# Altium footprint library MechanicalComponents.PcbLib: 27 footprints (part 1 of 2)
Each footprint in its own frame and in the unit in brackets; x right, y up, seen from the top. Pads: shape width x height; smd on the part's side, far side on the other; paste and mask are expansions set on the pad; w line width, h text height; cw(c..) or ccw(c..) is an arc to the next point about the centre after c.
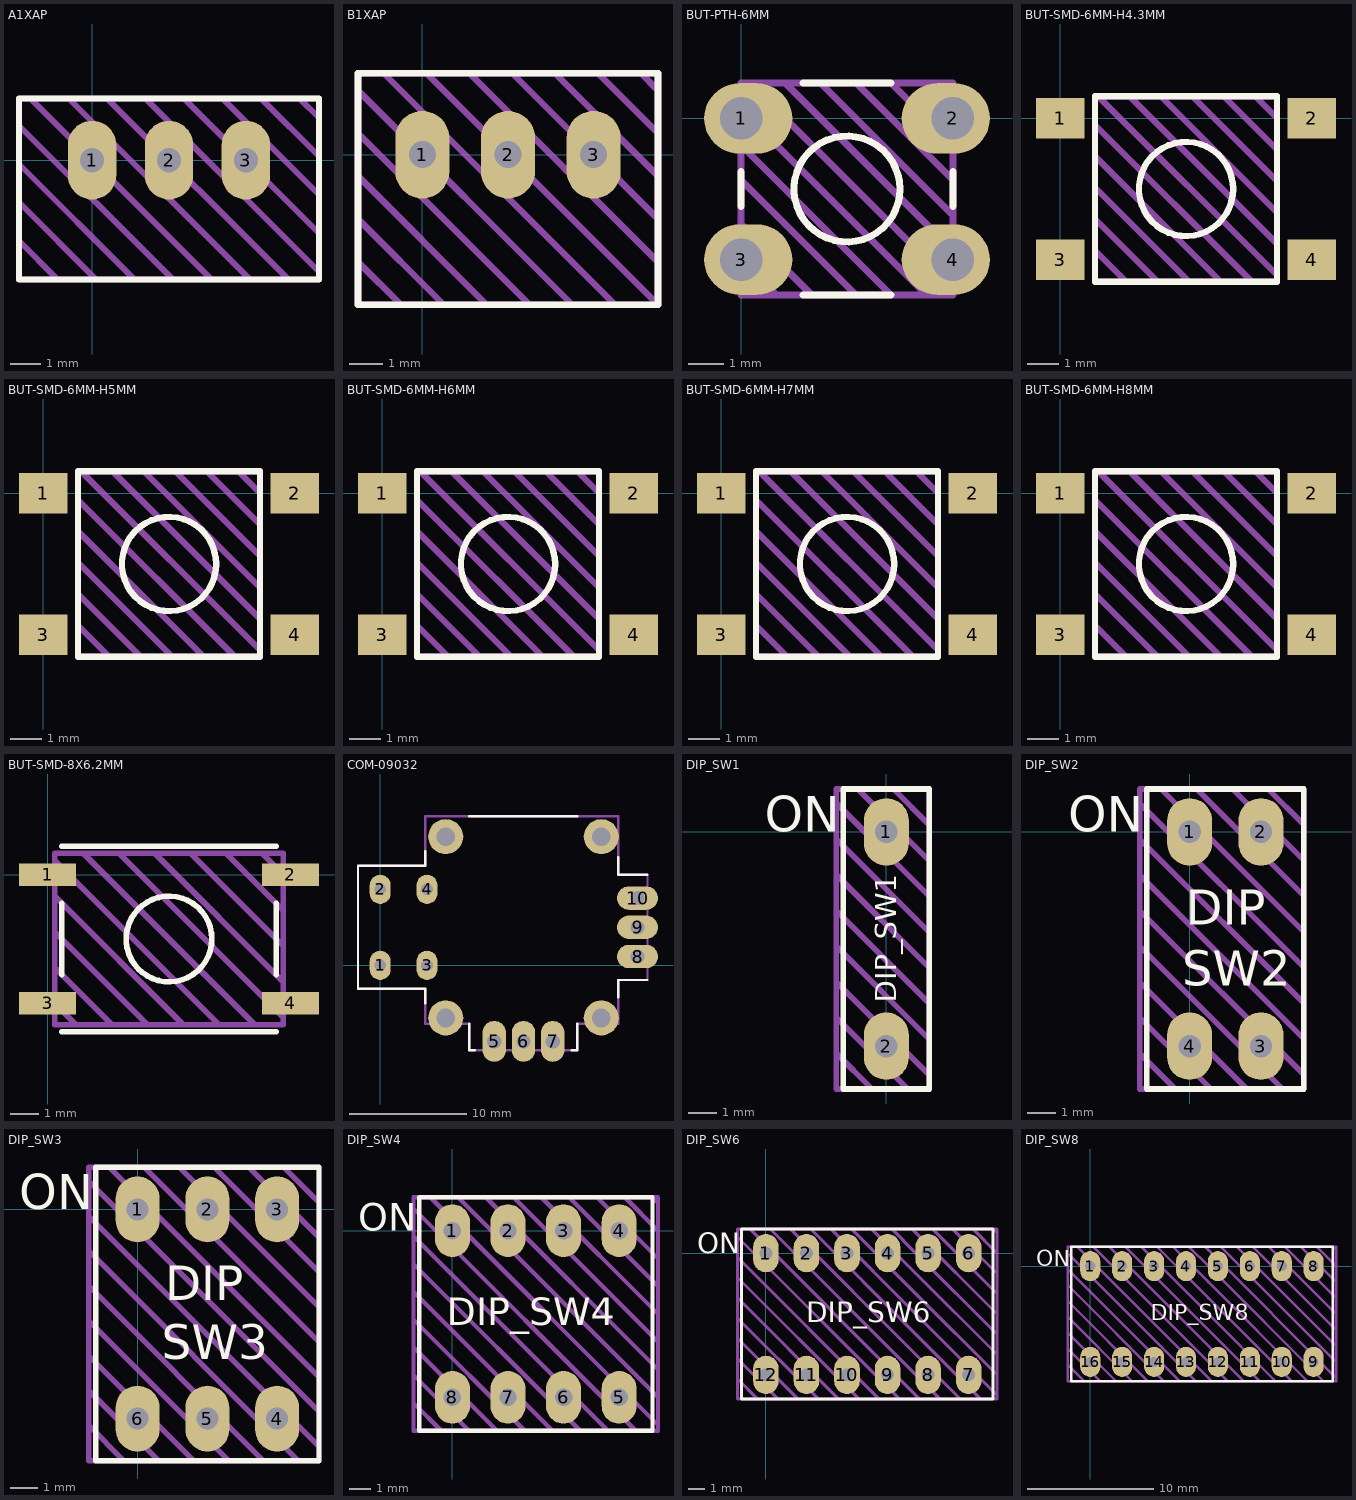
[diagram p0: the footprints below, top view; thin cyan lines are the x and y axes]

## A1XAP [mm] "NKK Switches A-Series Toggle Switch"
pads (3):
  oval 1.6x2.6 hole 0.8: 1(0,0) 2(2.54,0) 3(5.08,0)
Top Overlay:
  lines w0.2: -2.413,-3.937 -2.413,2.032 7.493,2.032 7.493,-3.937 -2.413,-3.937
Top Draw:
  lines w0.2: -2.413,-2.667 -1.143,-3.937 ; -2.413,-1.397 0.127,-3.937 ; -2.413,-0.127 1.397,-3.937 ; -2.413,1.143 2.667,-3.937 ; -2.032,2.032 3.937,-3.937 ; -0.762,2.032 5.207,-3.937 ; 0.508,2.032 6.477,-3.937 ; 1.778,2.032 7.493,-3.683 ; 3.048,2.032 7.493,-2.413 ; 4.318,2.032 7.493,-1.143 ; 5.588,2.032 7.493,0.127 ; 6.858,2.032 7.493,1.397 ; -2.413,-3.937 -2.413,2.032 7.493,2.032 7.493,-3.937 -2.413,-3.937
Top Info:
  text "'.Comment'" at -1.749,-5.383 h1
3D body "A13AP.stp": height 21.83, standoff -3.06, extent -2.362,-3.861 7.442,1.981

## B1XAP [mm] "NKK Switches B-Series Toggle Switch"
pads (3):
  oval 1.6x2.6 hole 0.8: 1(0,0) 2(2.54,0) 3(5.08,0)
Top Overlay:
  lines w0.2: -1.905,-4.445 -1.905,2.413 6.985,2.413 6.985,-4.445 -1.905,-4.445
Top Draw:
  lines w0.2: -1.905,-3.175 -0.635,-4.445 ; -1.905,-1.905 0.635,-4.445 ; -1.905,-0.635 1.905,-4.445 ; -1.905,0.635 3.175,-4.445 ; -1.905,1.905 4.445,-4.445 ; -1.143,2.413 5.715,-4.445 ; 0.127,2.413 6.985,-4.445 ; 1.397,2.413 6.985,-3.175 ; 2.667,2.413 6.985,-1.905 ; 3.937,2.413 6.985,-0.635 ; 5.207,2.413 6.985,0.635 ; 6.477,2.413 6.985,1.905 ; 6.985,-4.445 -1.905,-4.445 -1.905,2.413 6.985,2.413 6.985,-4.445
Top Info:
  text "'.Comment'" at -1.709,-5.917 h1
3D body "B13AP.stp": height 22.89, standoff -3.1, extent -1.854,-4.42 6.934,2.388

## BUT-PTH-6MM [mm]
pads (4):
  oval 2.5x2 hole 1.2 copper offset 0.2,0: 1(0,0) 3(0,-4)
  oval 2.5x2 hole 1.2 copper offset -0.2,0: 2(6,0) 4(6,-4)
Top Overlay:
  circle w0.2: c3,-2 r1.5
  lines w0.2: 0,-2.5 0,-1.5 ; 1.75,-5 4.25,-5 ; 1.75,1 4.25,1 ; 6,-2.5 6,-1.5
Top Draw:
  lines w0.2: 0,-4 1,-5 ; 0,-3 2,-5 ; 0,-1.75 3.25,-5 ; 0,-0.75 4.25,-5 ; 0,0.25 5.25,-5 ; 0.25,1 6,-4.75 ; 1.25,1 6,-3.75 ; 2.25,1 6,-2.75 ; 3.25,1 6,-1.75 ; 4.25,1 6,-0.75 ; 5.25,1 6,0.25 ; 0,-5 0,1 6,1 6,-5 0,-5
Top Info:
  text "'.Comment'" at -1.249,-6.483 h1
3D body: height -1.38, standoff -3.87, extent 4.969,-0.4 6.2,0.4
3D body: height -1.38, standoff -3.87, extent -0.2,-0.4 1.031,0.4
3D body: height -1.38, standoff -3.87, extent -0.2,-4.4 1.031,-3.6
3D body: height -1.38, standoff -3.87, extent 4.969,-4.4 6.2,-3.6
3D body: height 2, standoff -0.03, extent -0.197,-0.4 0.544,0.4
3D body: height 4, standoff 3.8, extent 4.5,-0.5 5.5,0.5
3D body: height 4, standoff 3.8, extent 4.5,-4.5 5.5,-3.5
3D body: height 4, standoff 3.8, extent 0.498,-4.5 1.498,-3.5
3D body: height 4, standoff 3.8, extent 0.498,-0.5 1.498,0.5
3D body: height 3.5, standoff 0.3, extent 0,-5 6,1
3D body: height 3.8, standoff 3.5, extent 0,-5 6,1
3D body: height 2, standoff -0.03, extent -0.197,-4.4 0.544,-3.6
3D body: height 2, standoff -0.03, extent 5.456,-4.4 6.197,-3.6
3D body: height 2, standoff -0.03, extent 5.456,-0.4 6.197,0.4
3D body: height 4.6, standoff 3.8, extent 1.494,-3.5 4.494,-0.5

## BUT-SMD-6MM-H4.3MM [mm]
pads (4):
  rect 1.55x1.3 smd: 1(0,0) 2(8,0) 3(0,-4.5) 4(8,-4.5)
Top Overlay:
  circle w0.2: c4,-2.25 r1.5
  lines w0.2: 1.1,-5.2 1.1,0.7 6.9,0.7 6.9,-5.2 1.1,-5.2
Top Draw:
  lines w0.2: 1.1,-4.2 2.1,-5.2 ; 1.1,-3.2 3.1,-5.2 ; 1.1,-2.2 4.1,-5.2 ; 1.1,-1.2 5.1,-5.2 ; 1.1,-0.2 6.1,-5.2 ; 1.2,0.7 6.9,-5 ; 2.2,0.7 6.9,-4 ; 3.2,0.7 6.9,-3 ; 4.2,0.7 6.9,-2 ; 5.2,0.7 6.9,-1 ; 6.2,0.7 6.9,0 ; 1.1,-5.2 1.1,0.7 6.9,0.7 6.9,-5.2 1.1,-5.2
Top Info:
  text "'.Comment'" at -0.249,-6.683 h1
3D body "TS6-SMT_H-4.3.step": height 4.3, standoff 0, extent 0,-5.25 8,0.75

## BUT-SMD-6MM-H5MM [mm]
pads (4):
  rect 1.55x1.3 smd: 1(0,0) 2(8,0) 3(0,-4.5) 4(8,-4.5)
Top Overlay:
  circle w0.2: c4,-2.25 r1.5
  lines w0.2: 1.1,-5.2 1.1,0.7 6.9,0.7 6.9,-5.2 1.1,-5.2
Top Draw:
  lines w0.2: 1.1,-4.2 2.1,-5.2 ; 1.1,-3.2 3.1,-5.2 ; 1.1,-2.2 4.1,-5.2 ; 1.1,-1.2 5.1,-5.2 ; 1.1,-0.2 6.1,-5.2 ; 1.2,0.7 6.9,-5 ; 2.2,0.7 6.9,-4 ; 3.2,0.7 6.9,-3 ; 4.2,0.7 6.9,-2 ; 5.2,0.7 6.9,-1 ; 6.2,0.7 6.9,0 ; 1.1,-5.2 1.1,0.7 6.9,0.7 6.9,-5.2 1.1,-5.2
Top Info:
  text "'.Comment'" at -0.249,-6.683 h1
3D body "TS6-SMT_H-5.0.step": height 5, standoff 0, extent 0,-5.25 8,0.75

## BUT-SMD-6MM-H6MM [mm]
pads (4):
  rect 1.55x1.3 smd: 1(0,0) 2(8,0) 3(0,-4.5) 4(8,-4.5)
Top Overlay:
  circle w0.2: c4,-2.25 r1.5
  lines w0.2: 1.1,-5.2 1.1,0.7 6.9,0.7 6.9,-5.2 1.1,-5.2
Top Draw:
  lines w0.2: 1.1,-4.2 2.1,-5.2 ; 1.1,-3.2 3.1,-5.2 ; 1.1,-2.2 4.1,-5.2 ; 1.1,-1.2 5.1,-5.2 ; 1.1,-0.2 6.1,-5.2 ; 1.2,0.7 6.9,-5 ; 2.2,0.7 6.9,-4 ; 3.2,0.7 6.9,-3 ; 4.2,0.7 6.9,-2 ; 5.2,0.7 6.9,-1 ; 6.2,0.7 6.9,0 ; 1.1,-5.2 1.1,0.7 6.9,0.7 6.9,-5.2 1.1,-5.2
Top Info:
  text "'.Comment'" at -0.249,-6.683 h1
3D body "TS6-SMT_H-6.0.step": height 6, standoff 0, extent 0,-5.25 8,0.75

## BUT-SMD-6MM-H7MM [mm]
pads (4):
  rect 1.55x1.3 smd: 1(0,0) 2(8,0) 3(0,-4.5) 4(8,-4.5)
Top Overlay:
  circle w0.2: c4,-2.25 r1.5
  lines w0.2: 1.1,-5.2 6.9,-5.2 6.9,0.7 1.1,0.7 1.1,-5.2
Top Draw:
  lines w0.2: 1.1,-4.2 2.1,-5.2 ; 1.1,-3.2 3.1,-5.2 ; 1.1,-2.2 4.1,-5.2 ; 1.1,-1.2 5.1,-5.2 ; 1.1,-0.2 6.1,-5.2 ; 1.2,0.7 6.9,-5 ; 2.2,0.7 6.9,-4 ; 3.2,0.7 6.9,-3 ; 4.2,0.7 6.9,-2 ; 5.2,0.7 6.9,-1 ; 6.2,0.7 6.9,0 ; 1.1,-5.2 6.9,-5.2 6.9,0.7 1.1,0.7 1.1,-5.2
Top Info:
  text "'.Comment'" at -0.249,-6.683 h1
3D body "TS6-SMT_H-7.0.step": height 7, standoff 0, extent 0,-5.25 8,0.75

## BUT-SMD-6MM-H8MM [mm]
pads (4):
  rect 1.55x1.3 smd: 1(0,0) 2(8,0) 3(0,-4.5) 4(8,-4.5)
Top Overlay:
  circle w0.2: c4,-2.25 r1.5
  lines w0.2: 1.1,-5.2 1.1,0.7 6.9,0.7 6.9,-5.2 1.1,-5.2
Top Draw:
  lines w0.2: 1.1,-4.2 2.1,-5.2 ; 1.1,-3.2 3.1,-5.2 ; 1.1,-2.2 4.1,-5.2 ; 1.1,-1.2 5.1,-5.2 ; 1.1,-0.2 6.1,-5.2 ; 1.2,0.7 6.9,-5 ; 2.2,0.7 6.9,-4 ; 3.2,0.7 6.9,-3 ; 4.2,0.7 6.9,-2 ; 5.2,0.7 6.9,-1 ; 6.2,0.7 6.9,0 ; 1.1,-5.2 1.1,0.7 6.9,0.7 6.9,-5.2 1.1,-5.2
Top Info:
  text "'.Comment'" at -0.249,-6.683 h1
3D body "TS6-SMT_H-8.0.step": height 8, standoff 0, extent 0,-5.25 8,0.75

## BUT-SMD-8X6.2MM [mm] "FSM1LP"
pads (4):
  rect 2x0.8 smd: 1(0,0) 2(8.5,0) 3(0,-4.5) 4(8.5,-4.5)
Top Overlay:
  circle w0.2: c4.25,-2.25 r1.5
  lines w0.2: 0.5,-5.5 8,-5.5 ; 0.5,-3.5 0.5,-1 ; 0.5,1 8,1 ; 8,-3.5 8,-1
Top Draw:
  lines w0.2: 0.25,-4.5 1,-5.25 ; 0.25,-3.25 2.25,-5.25 ; 0.25,-2 3.5,-5.25 ; 0.25,-0.75 4.75,-5.25 ; 0.25,0.5 6,-5.25 ; 1.25,0.75 7.25,-5.25 ; 2.5,0.75 8.25,-5 ; 3.75,0.75 8.25,-3.75 8.25,-4.5 ; 5,0.75 8.25,-2.5 ; 6.25,0.75 8.25,-1.25 8.25,-2.5 ; 7.5,0.75 8.25,0 8.25,-0.5 ; 8.25,-3 8.25,-2.5 ; 0.25,-5.25 0.25,0.75 8.25,0.75 8.25,-5.25 0.25,-5.25
Top Info:
  text "'.Comment'" at 0.001,-7.083 h1
3D body: height 0.3, standoff 0, extent -0.5,-0.3 0.7,0.3
3D body: height 0.3, standoff 0, extent -0.5,-4.8 0.7,-4.2
3D body: height 0.3, standoff 0, extent 7.8,-4.8 9,-4.2
3D body: height 0.3, standoff 0, extent 7.8,-0.3 9,0.3
3D body: height 2.1, standoff 1.9, extent 2.65,-3.85 5.85,-0.65
3D body: height 1, standoff 0, extent 0.65,-5.2 7.85,0.7
3D body: height 2, standoff 0.4, extent 0.55,-5.3 0.65,0.8
3D body: height 2, standoff 0.4, extent 0.55,-5.3 7.95,-5.2
3D body: height 2, standoff 0.4, extent 0.55,0.7 7.95,0.8
3D body: height 2, standoff 0.4, extent 7.85,-5.3 7.95,0.8
3D body: height 2, standoff 0.4, extent 0.55,-5.3 7.95,0.8

## COM-09032 [mm] "PS3/PS4 Analog Joystick"
pads (14):
  oval 1.8x2.5 hole 1: 1(0,0) 2(0,6.5) 3(4,0) 4(4,6.5)
  oval 2x3.5 hole 1.2: 5(9.75,-6.5) 6(12.25,-6.5) 7(14.75,-6.5)
  oval 3.5x2 hole 1.2: 8(22,0.75) 9(22,3.25) 10(22,5.75)
  round 3 hole 1.6: ""(5.6,-4.5) ""(5.6,11) ""(18.9,-4.5) ""(18.9,11)
Top Overlay:
  lines w0.2: 3.85,-3.25 3.85,-2 -1.9,-2 -1.9,8.5 3.85,8.5 3.85,9.75 ; 7.6,-5 7.6,-7.25 8.1,-7.25 ; 7.6,12.75 16.85,12.75 ; 16.35,-7.25 16.85,-7.25 16.85,-5 ; 20.35,-2.75 20.35,-1.25 22.85,-1.25 ; 20.35,9.25 20.35,7.75 22.85,7.75
Top Draw:
  lines w0.2: -1.9,-2 3.85,-2 3.85,-5 7.6,-5 7.6,-7.25 16.85,-7.25 16.85,-5 20.35,-5 20.35,-1.25 22.85,-1.25 22.85,7.75 20.35,7.75 20.35,12.75 7.6,12.75 3.85,12.75 3.85,8.5 -1.9,8.5 -1.9,-2
Top Info:
  text "'.Comment'" at 2.003,-11.166 h2

## DIP_SW1 [mm]
pads (2):
  oval 1.6x2.4 hole 0.8: 1(0,0) 2(0,-7.62)
Top Overlay:
  lines w0.2: -1.524,-9.144 -1.524,1.524 1.524,1.524 1.524,-9.144 -1.524,-9.144
  text "DIP_SW1" at 0.36,-6.073 h0.75
  text "ON" at -4.318,0 h1.27
Top Draw:
  lines w0.2: -1.778,-7.874 -0.508,-9.144 ; -1.778,-6.604 0.762,-9.144 ; -1.778,-5.334 1.524,-8.636 ; -1.778,-4.064 1.524,-7.366 ; -1.778,-2.794 1.524,-6.096 ; -1.778,-1.524 1.524,-4.826 ; -1.778,-0.254 1.524,-3.556 ; -1.778,1.016 1.524,-2.286 ; -1.016,1.524 1.524,-1.016 ; 0.254,1.524 1.524,0.254 ; -1.778,-9.144 1.524,-9.144 1.524,1.524 -1.778,1.524 -1.778,-9.144
Top Info:
  text "'.Comment'" at -5.311,-11.029 h1.25
3D body: height 7.62, standoff 6.32, extent -0.762,-3.302 0.762,-2.032
3D body: height 6.86, standoff 6.32, extent 0.762,-5.588 1.524,-2.032
3D body: height 6.86, standoff 6.32, extent -1.524,-5.588 -0.762,-2.032
3D body: height 0.25, standoff -1.78, extent -0.254,-0.127 0.254,0.127
3D body: height 0.25, standoff -1.78, extent -0.254,-7.747 0.254,-7.493
3D body: height 6.35, standoff 0, extent -1.778,-9.144 1.524,1.524
3D body: height 6.86, standoff 0.25, extent -1.778,-2.032 1.524,1.524
3D body: height 6.86, standoff 0.25, extent -1.778,-9.144 1.524,-5.588
3D body: height 6.43, standoff 6.32, extent -0.762,-5.588 0.762,-2.032

## DIP_SW2 [mm]
pads (4):
  oval 1.6x2.4 hole 0.8: 1(0,0) 2(2.54,0) 3(2.54,-7.62) 4(0,-7.62)
Top Overlay:
  lines w0.2: -1.524,-9.144 4.064,-9.144 4.064,1.524 -1.524,1.524 -1.524,-9.144
  text "ON" at -4.318,0 h1.27
  text "DIP" at -0.131,-3.306 h1.25
  text "SW2" at -0.258,-5.465 h1.25
Top Draw:
  lines w0.2: -1.778,-7.874 -0.508,-9.144 ; -1.778,-6.604 0.762,-9.144 ; -1.778,-5.334 2.032,-9.144 ; -1.778,-4.064 3.302,-9.144 ; -1.778,-2.794 4.064,-8.636 ; -1.778,-1.524 4.064,-7.366 ; -1.778,-0.254 4.064,-6.096 ; -1.778,1.016 4.064,-4.826 ; -1.016,1.524 4.064,-3.556 ; 0.254,1.524 4.064,-2.286 ; 1.524,1.524 4.064,-1.016 ; 2.794,1.524 4.064,0.254 ; -1.778,-9.144 -1.778,1.524 4.064,1.524 4.064,-9.144 -1.778,-9.144
Top Info:
  text "'.Comment'" at -4.041,-11.016 h1.25
3D body: height 7.62, standoff 6.32, extent 1.778,-3.302 3.302,-2.032
3D body: height 6.43, standoff 6.32, extent 1.778,-5.588 3.302,-2.032
3D body: height 6.43, standoff 6.32, extent -0.762,-5.588 0.762,-2.032
3D body: height 6.86, standoff 6.32, extent 3.302,-5.588 4.064,-2.032
3D body: height 6.86, standoff 0.25, extent -1.778,-9.144 4.064,-5.588
3D body: height 6.86, standoff 0.25, extent -1.778,-2.032 4.064,1.524
3D body: height 6.35, standoff 0, extent -1.778,-9.144 4.064,1.524
3D body: height 0.25, standoff -1.78, extent -0.254,-7.747 0.254,-7.493
3D body: height 0.25, standoff -1.78, extent 2.286,-7.747 2.794,-7.493
3D body: height 0.25, standoff -1.78, extent -0.254,-0.127 0.254,0.127
3D body: height 0.25, standoff -1.78, extent 2.286,-0.127 2.794,0.127
3D body: height 6.86, standoff 6.32, extent -1.524,-5.588 -0.762,-2.032
3D body: height 6.86, standoff 6.32, extent 0.762,-5.588 1.778,-2.032
3D body: height 7.62, standoff 6.32, extent -0.762,-3.302 0.762,-2.032

## DIP_SW3 [mm]
pads (6):
  oval 1.6x2.4 hole 0.8: 1(0,0) 2(2.54,0) 3(5.08,0) 4(5.08,-7.62) 5(2.54,-7.62) 6(0,-7.62)
Top Overlay:
  lines w0.2: -1.524,-9.144 6.604,-9.144 6.604,1.524 -1.524,1.524 -1.524,-9.144
  text "ON" at -4.318,0 h1.27
  text "DIP" at 1.012,-3.306 h1.25
  text "SW3" at 0.885,-5.465 h1.25
Top Draw:
  lines w0.2: -1.778,-7.874 -0.508,-9.144 ; -1.778,-6.604 0.762,-9.144 ; -1.778,-5.334 2.032,-9.144 ; -1.778,-4.064 3.302,-9.144 ; -1.778,-2.794 4.572,-9.144 ; -1.778,-1.524 5.842,-9.144 ; -1.778,-0.254 6.604,-8.636 ; -1.778,1.016 6.604,-7.366 ; -1.016,1.524 6.604,-6.096 ; 0.254,1.524 6.604,-4.826 ; 1.524,1.524 6.604,-3.556 ; 2.794,1.524 6.604,-2.286 ; 4.064,1.524 6.604,-1.016 ; 5.334,1.524 6.604,0.254 ; -1.778,-9.144 -1.778,1.524 6.604,1.524 6.604,-9.144 -1.778,-9.144
Top Info:
  text "'.Comment'" at -2.771,-11.016 h1.25
3D body: height 7.62, standoff 6.32, extent 4.318,-3.302 5.842,-2.032
3D body: height 6.43, standoff 6.32, extent 4.318,-5.588 5.842,-2.032
3D body: height 7.62, standoff 6.32, extent 1.778,-3.302 3.302,-2.032
3D body: height 6.43, standoff 6.32, extent 1.778,-5.588 3.302,-2.032
3D body: height 6.43, standoff 6.32, extent -0.762,-5.588 0.762,-2.032
3D body: height 6.86, standoff 6.32, extent 5.842,-5.588 6.604,-2.032
3D body: height 6.86, standoff 6.32, extent 3.302,-5.588 4.318,-2.032
3D body: height 6.86, standoff 0.25, extent -1.778,-9.144 6.604,-5.588
3D body: height 6.86, standoff 0.25, extent -1.778,-2.032 6.604,1.524
3D body: height 6.35, standoff 0, extent -1.778,-9.144 6.604,1.524
3D body: height 0.25, standoff -1.78, extent -0.254,-7.747 0.254,-7.493
3D body: height 0.25, standoff -1.78, extent 2.286,-7.747 2.794,-7.493
3D body: height 0.25, standoff -1.78, extent 4.826,-7.747 5.334,-7.493
3D body: height 0.25, standoff -1.78, extent -0.254,-0.127 0.254,0.127
3D body: height 0.25, standoff -1.78, extent 2.286,-0.127 2.794,0.127
3D body: height 0.25, standoff -1.78, extent 4.826,-0.127 5.334,0.127
3D body: height 6.86, standoff 6.32, extent -1.524,-5.588 -0.762,-2.032
3D body: height 6.86, standoff 6.32, extent 0.762,-5.588 1.778,-2.032
3D body: height 7.62, standoff 6.32, extent -0.762,-3.302 0.762,-2.032

## DIP_SW4 [mm]
pads (8):
  oval 1.6x2.4 hole 0.8: 1(0,0) 2(2.54,0) 3(5.08,0) 4(7.62,0) 5(7.62,-7.62) 6(5.08,-7.62) 7(2.54,-7.62) 8(0,-7.62)
Top Overlay:
  lines w0.2: -1.524,-9.144 9.144,-9.144 9.144,1.524 -1.524,1.524 -1.524,-9.144
  text "ON" at -4.318,0 h1.27
  text "DIP_SW4" at -0.254,-4.318 h1.27
Top Draw:
  lines w0.2: -1.778,-7.874 -0.508,-9.144 ; -1.778,-6.604 0.762,-9.144 ; -1.778,-5.334 2.032,-9.144 ; -1.778,-4.064 3.302,-9.144 ; -1.778,-2.794 4.572,-9.144 ; -1.778,-1.524 5.842,-9.144 ; -1.778,-0.254 7.112,-9.144 ; -1.778,1.016 8.382,-9.144 ; -1.016,1.524 9.398,-8.89 ; 0.254,1.524 9.398,-7.62 ; 1.524,1.524 9.398,-6.35 ; 2.794,1.524 9.398,-5.08 ; 4.064,1.524 9.398,-3.81 ; 5.334,1.524 9.398,-2.54 ; 6.604,1.524 9.398,-1.27 ; 7.874,1.524 9.398,0 ; 9.144,1.524 9.398,1.27 ; -1.778,-9.144 -1.778,1.524 9.398,1.524 9.398,-9.144 -1.778,-9.144
Top Info:
  text "'.Comment'" at -1.501,-11.016 h1.25
3D body: height 7.62, standoff 6.32, extent 6.858,-3.302 8.382,-2.032
3D body: height 6.43, standoff 6.32, extent 6.858,-5.588 8.382,-2.032
3D body: height 7.62, standoff 6.32, extent 4.318,-3.302 5.842,-2.032
3D body: height 6.43, standoff 6.32, extent 4.318,-5.588 5.842,-2.032
3D body: height 7.62, standoff 6.32, extent 1.778,-3.302 3.302,-2.032
3D body: height 6.43, standoff 6.32, extent 1.778,-5.588 3.302,-2.032
3D body: height 6.43, standoff 6.32, extent -0.762,-5.588 0.762,-2.032
3D body: height 6.86, standoff 6.32, extent 8.382,-5.588 9.398,-2.032
3D body: height 6.86, standoff 6.32, extent 5.842,-5.588 6.858,-2.032
3D body: height 6.86, standoff 6.32, extent 3.302,-5.588 4.318,-2.032
3D body: height 6.86, standoff 0.25, extent -1.778,-9.144 9.398,-5.588
3D body: height 6.86, standoff 0.25, extent -1.778,-2.032 9.398,1.524
3D body: height 6.35, standoff 0, extent -1.778,-9.144 9.398,1.524
3D body: height 0.25, standoff -1.78, extent -0.254,-7.747 0.254,-7.493
3D body: height 0.25, standoff -1.78, extent 2.286,-7.747 2.794,-7.493
3D body: height 0.25, standoff -1.78, extent 4.826,-7.747 5.334,-7.493
3D body: height 0.25, standoff -1.78, extent -0.254,-0.127 0.254,0.127
3D body: height 0.25, standoff -1.78, extent 2.286,-0.127 2.794,0.127
3D body: height 0.25, standoff -1.78, extent 4.826,-0.127 5.334,0.127
3D body: height 0.25, standoff -1.78, extent 7.366,-0.127 7.874,0.127
3D body: height 0.25, standoff -1.78, extent 7.366,-7.747 7.874,-7.493
3D body: height 6.86, standoff 6.32, extent -1.524,-5.588 -0.762,-2.032
3D body: height 6.86, standoff 6.32, extent 0.762,-5.588 1.778,-2.032
3D body: height 7.62, standoff 6.32, extent -0.762,-3.302 0.762,-2.032

## DIP_SW6 [mm]
pads (12):
  oval 1.6x2.4 hole 0.8: 1(0,0) 2(2.54,0) 3(5.08,0) 4(7.62,0) 5(10.16,0) 6(12.7,0) 7(12.7,-7.62) 8(10.16,-7.62) 9(7.62,-7.62) 10(5.08,-7.62) 11(2.54,-7.62) 12(0,-7.62)
Top Overlay:
  lines w0.2: -1.524,-9.144 14.224,-9.144 14.224,1.524 -1.524,1.524 -1.524,-9.144
  text "ON" at -4.318,0 h1.27
  text "DIP_SW6" at 2.54,-4.318 h1.27
Top Draw:
  lines w0.2: -1.778,-7.874 -0.508,-9.144 ; -1.778,-6.604 0.762,-9.144 ; -1.778,-5.334 2.032,-9.144 ; -1.778,-4.064 3.302,-9.144 ; -1.778,-2.794 4.572,-9.144 ; -1.778,-1.524 5.842,-9.144 ; -1.778,-0.254 7.112,-9.144 ; -1.778,1.016 8.382,-9.144 ; -1.016,1.524 9.398,-8.89 9.652,-9.144 ; 0.254,1.524 9.398,-7.62 10.922,-9.144 ; 1.524,1.524 9.398,-6.35 12.192,-9.144 ; 2.794,1.524 9.398,-5.08 13.462,-9.144 ; 4.064,1.524 9.398,-3.81 14.478,-8.89 14.478,-9.144 ; 5.334,1.524 9.398,-2.54 14.478,-7.62 ; 6.604,1.524 9.398,-1.27 14.478,-6.35 ; 7.874,1.524 9.398,0 14.478,-5.08 ; 9.144,1.524 9.398,1.27 14.478,-3.81 ; 10.414,1.524 14.478,-2.54 ; 11.684,1.524 14.478,-1.27 ; 12.954,1.524 14.478,0 ; 14.224,1.524 14.478,1.27 ; 10.922,-9.144 10.922,-9.144 ; 14.478,-9.144 -1.778,-9.144 -1.778,1.524 14.478,1.524 14.478,-9.144
Top Info:
  text "'.Comment'" at 1.039,-11.016 h1.25
3D body: height 0.25, standoff -1.78, extent 12.446,-7.747 12.954,-7.493
3D body: height 0.25, standoff -1.78, extent 12.446,-0.127 12.954,0.127
3D body: height 0.25, standoff -1.78, extent 9.906,-0.127 10.414,0.127
3D body: height 0.25, standoff -1.78, extent 9.906,-7.747 10.414,-7.493
3D body: height 6.86, standoff 6.32, extent 10.922,-5.588 11.938,-2.032
3D body: height 6.86, standoff 6.32, extent 13.462,-5.588 14.478,-2.032
3D body: height 6.43, standoff 6.32, extent 9.398,-5.588 10.922,-2.032
3D body: height 7.62, standoff 6.32, extent 9.398,-3.302 10.922,-2.032
3D body: height 6.43, standoff 6.32, extent 11.938,-5.588 13.462,-2.032
3D body: height 7.62, standoff 6.32, extent 11.938,-3.302 13.462,-2.032
3D body: height 7.62, standoff 6.32, extent 6.858,-3.302 8.382,-2.032
3D body: height 6.43, standoff 6.32, extent 6.858,-5.588 8.382,-2.032
3D body: height 7.62, standoff 6.32, extent 4.318,-3.302 5.842,-2.032
3D body: height 6.43, standoff 6.32, extent 4.318,-5.588 5.842,-2.032
3D body: height 7.62, standoff 6.32, extent 1.778,-3.302 3.302,-2.032
3D body: height 6.43, standoff 6.32, extent 1.778,-5.588 3.302,-2.032
3D body: height 6.43, standoff 6.32, extent -0.762,-5.588 0.762,-2.032
3D body: height 6.86, standoff 6.32, extent 8.382,-5.588 9.398,-2.032
3D body: height 6.86, standoff 6.32, extent 5.842,-5.588 6.858,-2.032
3D body: height 6.86, standoff 6.32, extent 3.302,-5.588 4.318,-2.032
3D body: height 6.86, standoff 0.25, extent -1.778,-9.144 14.478,-5.588
3D body: height 6.86, standoff 0.25, extent -1.778,-2.032 14.478,1.524
3D body: height 6.35, standoff 0, extent -1.778,-9.144 14.478,1.524
3D body: height 0.25, standoff -1.78, extent -0.254,-7.747 0.254,-7.493
3D body: height 0.25, standoff -1.78, extent 2.286,-7.747 2.794,-7.493
3D body: height 0.25, standoff -1.78, extent 4.826,-7.747 5.334,-7.493
3D body: height 0.25, standoff -1.78, extent -0.254,-0.127 0.254,0.127
3D body: height 0.25, standoff -1.78, extent 2.286,-0.127 2.794,0.127
3D body: height 0.25, standoff -1.78, extent 4.826,-0.127 5.334,0.127
3D body: height 0.25, standoff -1.78, extent 7.366,-0.127 7.874,0.127
3D body: height 0.25, standoff -1.78, extent 7.366,-7.747 7.874,-7.493
3D body: height 6.86, standoff 6.32, extent -1.524,-5.588 -0.762,-2.032
3D body: height 6.86, standoff 6.32, extent 0.762,-5.588 1.778,-2.032
3D body: height 7.62, standoff 6.32, extent -0.762,-3.302 0.762,-2.032

## DIP_SW8 [mm]
pads (16):
  oval 1.6x2.4 hole 0.8: 1(0,0) 2(2.54,0) 3(5.08,0) 4(7.62,0) 5(10.16,0) 6(12.7,0) 7(15.24,0) 8(17.78,0) 9(17.78,-7.62) 10(15.24,-7.62) 11(12.7,-7.62) 12(10.16,-7.62) 13(7.62,-7.62) 14(5.08,-7.62) 15(2.54,-7.62) 16(0,-7.62)
Top Overlay:
  lines w0.2: -1.524,-9.144 -1.524,1.524 19.304,1.524 19.304,-1.143 19.304,-6.477 19.304,-9.144 -1.524,-9.144
  text "ON" at -4.318,0 h1.27
  text "DIP_SW8" at 4.826,-4.318 h1.27
Top Draw:
  lines w0.2: -1.778,-7.874 -0.508,-9.144 ; -1.778,-6.604 0.762,-9.144 ; -1.778,-5.334 2.032,-9.144 ; -1.778,-4.064 3.302,-9.144 ; -1.778,-2.794 4.572,-9.144 ; -1.778,-1.524 5.842,-9.144 ; -1.778,-0.254 7.112,-9.144 ; -1.778,1.016 8.382,-9.144 ; -1.016,1.524 9.398,-8.89 9.652,-9.144 ; 0.254,1.524 9.398,-7.62 10.922,-9.144 ; 1.524,1.524 9.398,-6.35 12.192,-9.144 ; 2.794,1.524 9.398,-5.08 13.462,-9.144 ; 4.064,1.524 9.398,-3.81 14.605,-9.017 ; 5.334,1.524 9.398,-2.54 16.002,-9.144 ; 6.604,1.524 9.398,-1.27 17.272,-9.144 17.78,-9.144 ; 7.874,1.524 9.398,0 18.542,-9.144 ; 9.144,1.524 9.398,1.27 19.558,-8.89 ; 10.414,1.524 19.558,-7.62 ; 11.684,1.524 19.558,-6.35 ; 12.954,1.524 19.558,-5.08 ; 14.224,1.524 19.558,-3.81 19.558,-9.144 14.478,-9.144 -1.778,-9.144 -1.778,1.524 19.558,1.524 19.558,-4.064 ; 15.494,1.524 19.558,-2.54 ; 16.764,1.524 19.558,-1.27 ; 18.034,1.524 19.558,0 ; 19.304,1.524 19.558,1.27 ; 10.922,-9.144 10.922,-9.144
Top Info:
  text "'.Comment'" at 3.579,-11.016 h1.25
3D body: height 6.86, standoff 6.32, extent 18.542,-5.588 19.558,-2.032
3D body: height 6.86, standoff 6.32, extent 16.002,-5.588 17.018,-2.032
3D body: height 6.43, standoff 6.32, extent 17.018,-5.588 18.542,-2.032
3D body: height 7.62, standoff 6.32, extent 17.018,-3.302 18.542,-2.032
3D body: height 6.43, standoff 6.32, extent 14.478,-5.588 16.002,-2.032
3D body: height 7.62, standoff 6.32, extent 14.478,-3.302 16.002,-2.032
3D body: height 7.62, standoff 6.32, extent -0.762,-3.302 0.762,-2.032
3D body: height 6.86, standoff 6.32, extent 0.762,-5.588 1.778,-2.032
3D body: height 6.86, standoff 6.32, extent -1.524,-5.588 -0.762,-2.032
3D body: height 0.25, standoff -1.78, extent 7.366,-7.747 7.874,-7.493
3D body: height 0.25, standoff -1.78, extent 7.366,-0.127 7.874,0.127
3D body: height 0.25, standoff -1.78, extent 4.826,-0.127 5.334,0.127
3D body: height 0.25, standoff -1.78, extent 2.286,-0.127 2.794,0.127
3D body: height 0.25, standoff -1.78, extent -0.254,-0.127 0.254,0.127
3D body: height 0.25, standoff -1.78, extent 4.826,-7.747 5.334,-7.493
3D body: height 0.25, standoff -1.78, extent 2.286,-7.747 2.794,-7.493
3D body: height 0.25, standoff -1.78, extent -0.254,-7.747 0.254,-7.493
3D body: height 6.35, standoff 0, extent -1.778,-9.144 19.558,1.524
3D body: height 6.86, standoff 0.25, extent -1.778,-2.032 19.558,1.524
3D body: height 6.86, standoff 0.25, extent -1.778,-9.144 19.558,-5.588
3D body: height 6.86, standoff 6.32, extent 3.302,-5.588 4.318,-2.032
3D body: height 6.86, standoff 6.32, extent 5.842,-5.588 6.858,-2.032
3D body: height 6.86, standoff 6.32, extent 8.382,-5.588 9.398,-2.032
3D body: height 6.43, standoff 6.32, extent -0.762,-5.588 0.762,-2.032
3D body: height 6.43, standoff 6.32, extent 1.778,-5.588 3.302,-2.032
3D body: height 7.62, standoff 6.32, extent 1.778,-3.302 3.302,-2.032
3D body: height 6.43, standoff 6.32, extent 4.318,-5.588 5.842,-2.032
3D body: height 7.62, standoff 6.32, extent 4.318,-3.302 5.842,-2.032
3D body: height 6.43, standoff 6.32, extent 6.858,-5.588 8.382,-2.032
3D body: height 7.62, standoff 6.32, extent 6.858,-3.302 8.382,-2.032
3D body: height 7.62, standoff 6.32, extent 11.938,-3.302 13.462,-2.032
3D body: height 6.43, standoff 6.32, extent 11.938,-5.588 13.462,-2.032
3D body: height 7.62, standoff 6.32, extent 9.398,-3.302 10.922,-2.032
3D body: height 6.43, standoff 6.32, extent 9.398,-5.588 10.922,-2.032
3D body: height 6.86, standoff 6.32, extent 13.462,-5.588 14.478,-2.032
3D body: height 6.86, standoff 6.32, extent 10.922,-5.588 11.938,-2.032
3D body: height 0.25, standoff -1.78, extent 9.906,-7.747 10.414,-7.493
3D body: height 0.25, standoff -1.78, extent 9.906,-0.127 10.414,0.127
3D body: height 0.25, standoff -1.78, extent 12.446,-0.127 12.954,0.127
3D body: height 0.25, standoff -1.78, extent 12.446,-7.747 12.954,-7.493
3D body: height 0.25, standoff -1.78, extent 14.986,-0.127 15.494,0.127
3D body: height 0.25, standoff -1.78, extent 17.526,-0.127 18.034,0.127
3D body: height 0.25, standoff -1.78, extent 17.526,-7.747 18.034,-7.493
3D body: height 0.25, standoff -1.78, extent 14.986,-7.747 15.494,-7.493